# Altium footprint library Voltage Regulator.PcbLib: 34 footprints (part 3 of 3)
Each footprint in its own frame and in the unit in brackets; x right, y up, seen from the top. Pads: shape width x height; smd on the part's side, far side on the other; paste and mask are expansions set on the pad; w line width, h text height; cw(c..) or ccw(c..) is an arc to the next point about the centre after c.
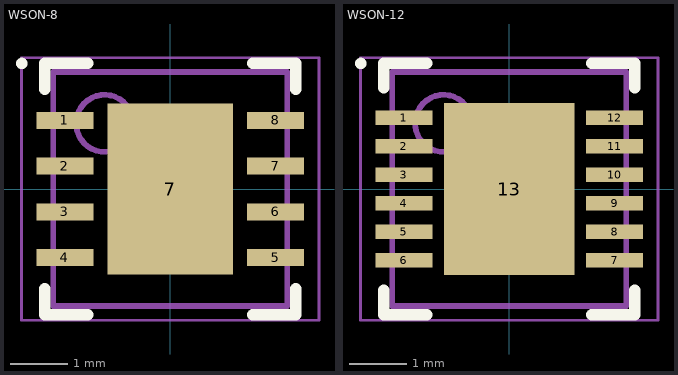
[diagram p2: the footprints below, top view; thin cyan lines are the x and y axes]

## WSON-8 [mm] "SON, 8-Leads, Body 4,00x4,00mm, Pitch 0,80mm, Thermal Pad 3,00x2,20mm, IPC Medium Density"
height 0.8
pads (9):
  rect 1x0.3 smd: 1(-1.845,1.2) 2(-1.845,0.4) 3(-1.845,-0.4) 4(-1.845,-1.2) 5(1.845,-1.2) 6(1.845,-0.4) 7(1.845,0.4) 8(1.845,1.2)
  rect 2.2x3 smd paste-1.1: 7(0,0)
Top Overlay:
  circle w0.1: c-2.6,2.2 r0.05
  lines w0.2: -2.2,-1.75 -2.2,-2.2 -1.445,-2.2 ; -2.2,1.75 -2.2,2.2 -1.445,2.2 ; 1.445,-2.2 2.2,-2.2 2.2,-1.75 ; 1.445,2.2 2.2,2.2 2.2,1.75
Top Paste:
  rectangle: -1,0.1 -0.1,1.4
  rectangle: -1,-1.4 -0.1,-0.1
  rectangle: 0.1,0.1 1,1.4
  rectangle: 0.1,-1.4 1,-0.1
Mechanical 13:
  circle w0.1: c-1.15,1.15 r0.5
  lines w0.1: -2.05,-2.05 -2.05,2.05 2.05,2.05 2.05,-2.05 -2.05,-2.05
Mechanical 15:
  lines w0.05: -2.605,-2.3 -2.605,2.3 2.605,2.3 2.605,-2.3 -2.605,-2.3
  lines w0.1: -0.5,0 0.5,0 ; 0,-0.5 0,0.5
3D body "SON80P400X80_HS-9N.step": height 0.8, standoff 0, extent -2.1,-2.05 2.1,2.05

## WSON-12 [mm] "SON, 12-Leads, Body 4,00x4,00mm, Pitch 0,50mm, Thermal Pad 3,01x2,29mm, IPC Medium Density"
height 1
pads (13):
  rect 1x0.25 smd: 1(-1.845,1.25) 2(-1.845,0.75) 3(-1.845,0.25) 4(-1.845,-0.25) 5(-1.845,-0.75) 6(-1.845,-1.25) 7(1.845,-1.25) 8(1.845,-0.75) 9(1.845,-0.25) 10(1.845,0.25) 11(1.845,0.75) 12(1.845,1.25)
  rect 2.29x3.01 smd paste-1.145: 13(0,0)
Top Overlay:
  circle w0.1: c-2.6,2.2 r0.05
  lines w0.2: -2.2,-1.775 -2.2,-2.2 -1.445,-2.2 ; -2.2,1.775 -2.2,2.2 -1.445,2.2 ; 1.445,-2.2 2.2,-2.2 2.2,-1.775 ; 1.445,2.2 2.2,2.2 2.2,1.775
Top Paste:
  rectangle: 0.1,-1.41 1.05,-0.1
  rectangle: 0.1,0.1 1.05,1.41
  rectangle: -1.05,-1.41 -0.1,-0.1
  rectangle: -1.05,0.1 -0.1,1.41
Mechanical 13:
  circle w0.1: c-1.15,1.15 r0.5
  lines w0.1: -2.05,-2.05 2.05,-2.05 2.05,2.05 -2.05,2.05 -2.05,-2.05
Mechanical 15:
  lines w0.05: -2.605,-2.3 2.605,-2.3 2.605,2.3 -2.605,2.3 -2.605,-2.3
  lines w0.1: -0.5,0 0.5,0 ; 0,-0.5 0,0.5
3D body "SON50P400X100_HS-13N.step": height 1, standoff 0, extent -2.13,-2.05 2.13,2.05